# Altium footprint library PcbLib1.PcbLib: 36 footprints (part 1 of 3)
Each footprint in its own frame and in the unit in brackets; x right, y up, seen from the top. Pads: shape width x height; smd on the part's side, far side on the other; paste and mask are expansions set on the pad; w line width, h text height; cw(c..) or ccw(c..) is an arc to the next point about the centre after c.
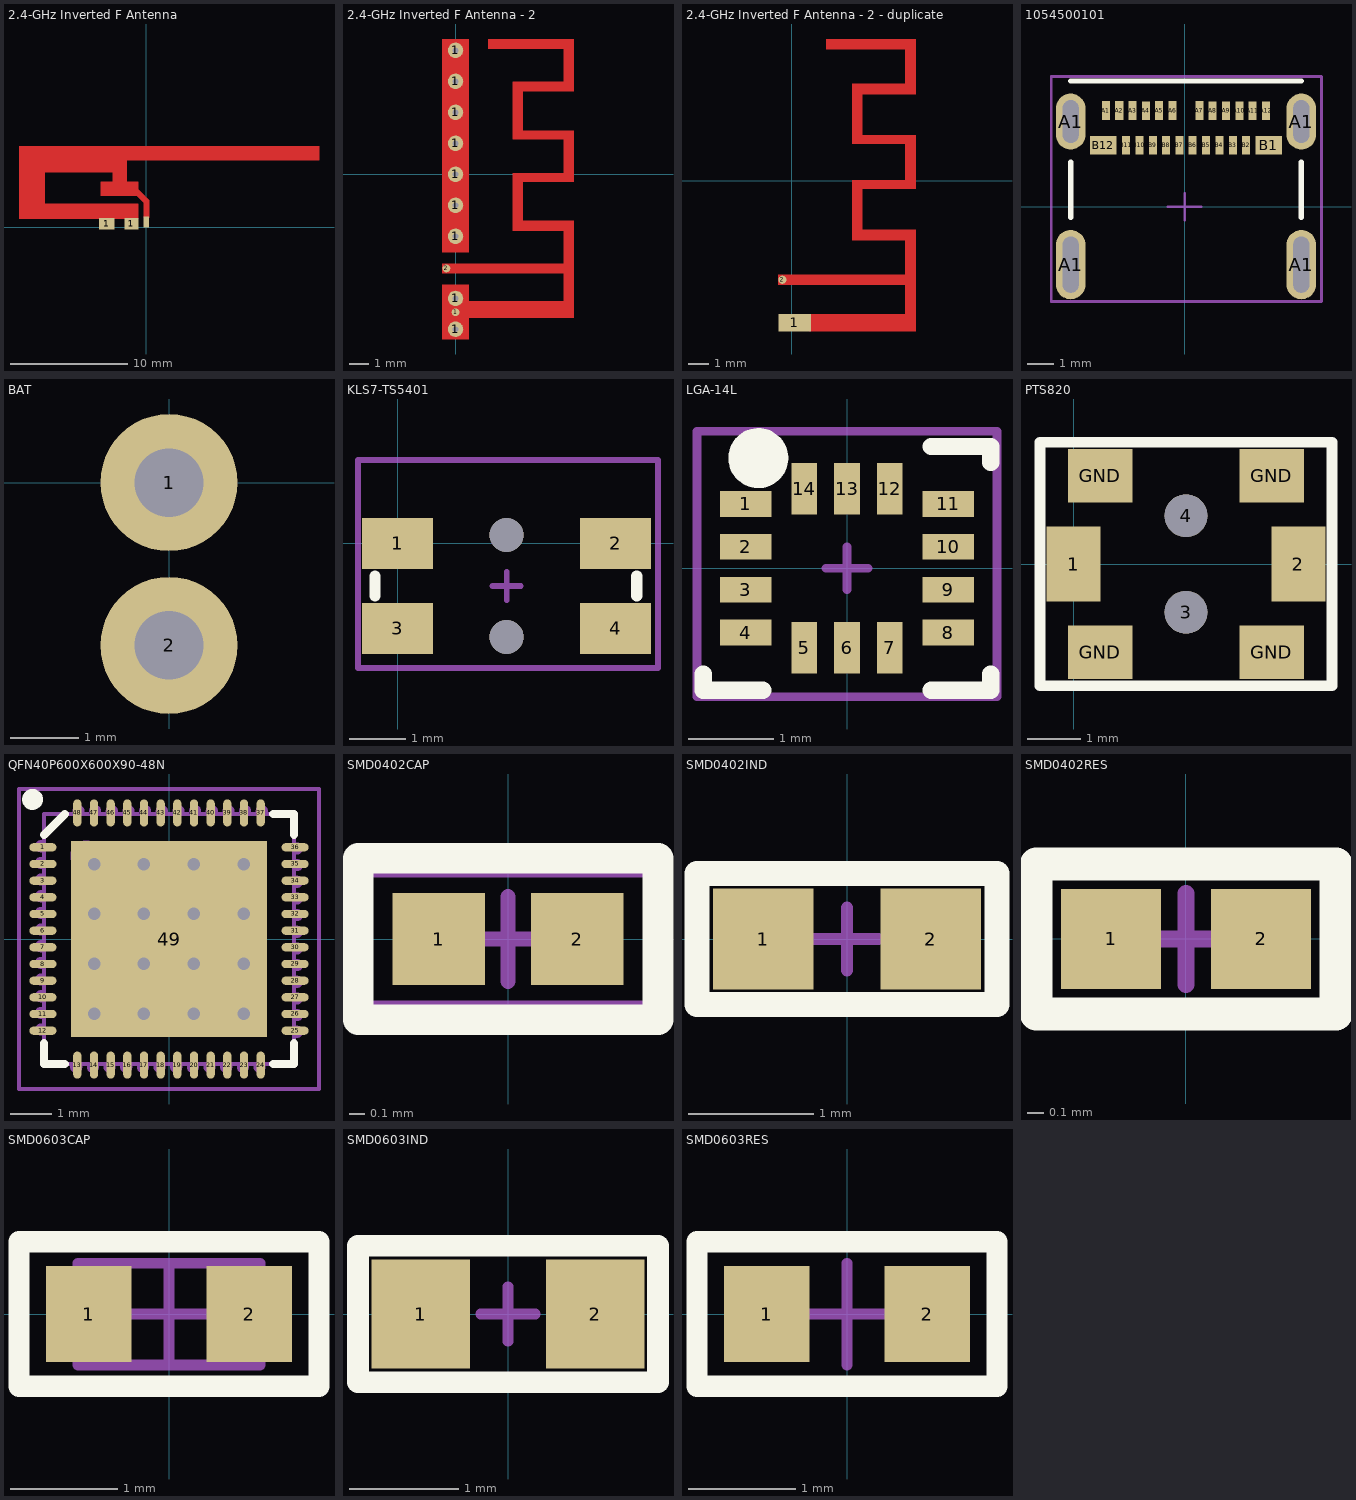
[diagram p0: the footprints below, top view; thin cyan lines are the x and y axes]

## 2.4-GHz Inverted F Antenna [mm]
pads (3):
  rect 1.35x1 smd paste-1: 1(-3.375,0.3)
  rect 1.2x1 smd paste-1: 1(-1.28,0.3)
  rect 0.46x0.92 smd paste-1: 2(0,0.46)
Top Layer:
  region: -0.23,0.8 0.23,0.8 0.23,2.295 -0.7,3.225 -1.025,2.9 -0.23,2.105
  region: 14.72,6.91 14.72,5.7 -1.68,5.7 -1.68,3.9 -0.68,3.9 -0.68,2.69 -3.88,2.69 -3.88,3.9 -2.88,3.9 -2.88,4.7 -8.68,4.7 -8.68,2.03 -0.68,2.03 -0.68,0.74 -1.88,0.74 -2.7,0.74 -4.05,0.74 -10.86,0.74 -10.86,6.91

## 2.4-GHz Inverted F Antenna - 2 [mm]
pads (11):
  round 0.8 hole 0.3 unplated: 1(0,-8) 1(0,-6.41) 1(0,-3.2) 1(0,-1.6) 1(0,0) 1(0,1.6) 1(0,3.2) 1(0,4.8) 1(0,6.4)
  round 0.4 smd paste-1: 1(0,-7.125) 2(-0.47,-4.86)
Top Layer:
  region: -0.677,6.989 -0.677,-4.018 0.678,-4.018 0.678,6.989
  region: 3.472,-2.409 3.472,-0.377 6.097,-0.377 6.097,2.248 3.472,2.248 3.472,4.28 6.097,4.28 6.097,6.989 1.694,6.989 1.694,6.481 5.589,6.481 5.589,4.788 2.964,4.788 2.964,1.824 5.589,1.824 5.589,0.046 2.964,0.046 2.964,-2.917 5.589,-2.917 5.589,-4.61 -0.677,-4.61 -0.677,-5.118 5.589,-5.118 5.589,-6.558 0.678,-6.558 0.678,-5.711 -0.677,-5.711 -0.677,-8.505 0.678,-8.505 0.678,-7.404 6.097,-7.404 6.097,-2.409
Mechanical 15:
  lines w0.003: 3.192,-0.656 3.243,-0.605

## 2.4-GHz Inverted F Antenna - 2 - duplicate [mm]
pads (2):
  rect 1.6x0.847 smd paste+0 mask+0.102: 1(0.137,-6.981)
  round 0.4 smd paste-1: 2(-0.47,-4.864)
Top Layer:
  region: 3.472,-2.409 3.472,-0.377 6.097,-0.377 6.097,2.248 3.472,2.248 3.472,4.28 6.097,4.28 6.097,6.989 1.694,6.989 1.694,6.481 5.589,6.481 5.589,4.788 2.964,4.788 2.964,1.824 5.589,1.824 5.589,0.046 2.964,0.046 2.964,-2.917 5.589,-2.917 5.589,-4.61 -0.677,-4.61 -0.677,-5.118 5.589,-5.118 5.589,-6.558 0.887,-6.558 0.887,-7.404 6.097,-7.404 6.097,-2.409
Mechanical 15:
  lines w0.003: 3.192,-0.656 3.243,-0.605

## 1054500101 [mm]
pads (28):
  oval 1.1x2.599 hole 0.6 slot 2.1 at 90 deg copper offset 0.001,0: A1(-4.271,-2.171)
  oval 1.1x2.1 hole 0.6 slot 1.6 at 90 deg copper offset 0.001,0: A1(-4.271,3.189)
  rect 0.3x0.7 smd mask+0.05: A1(-2.953,3.603) A2(-2.452,3.601) A3(-1.953,3.601) A4(-1.45,3.598) A5(-0.956,3.601) A6(-0.45,3.6) A7(0.55,3.601) A8(1.05,3.6) A9(1.549,3.599) A10(2.052,3.596) A11(2.545,3.599) A12(3.049,3.599) B2(2.297,2.3) B3(1.801,2.296) B4(1.299,2.299) B5(0.8,2.3) B6(0.3,2.302) B7(-0.197,2.301) B8(-0.699,2.301) B9(-1.194,2.297) B10(-1.697,2.301) B11(-2.196,2.302)
  oval 1.1x2.599 hole 0.6 slot 2.1 at 90 deg copper offset -0.001,0: A1(4.369,-2.171)
  oval 1.1x2.099 hole 0.6 slot 1.6 at 90 deg copper offset -0.001,0: A1(4.369,3.189)
  rect 1x0.7 smd mask+0.05: B1(3.149,2.299) B12(-3.051,2.299)
Top Overlay:
  lines w0.2: -4.271,-0.401 -4.271,1.669 ; -4.271,4.709 4.369,4.709 ; 4.369,-0.401 4.369,1.669
Mechanical 15:
  lines w0.1: -0.625,0 0.625,0 ; 0,-0.5 0,0.5 ; -5,-3.55 5.125,-3.55 5.125,4.875 -5,4.875 -5,-3.55
3D body "1054500101.stp": height 3.18, standoff -0.78, extent -4.375,-4.125 4.565,3.775

## BAT [mm]
pads (2):
  round 2 hole 1: 1(0,0) 2(0,-2.375)

## KLS7-TS5401 [mm] "TACT BUTTON"
pads (6):
  rect 1.25x0.9 smd: 1(0,0) 2(3.85,0) 3(0,-1.5) 4(3.85,-1.5)
  round 0.6 hole 0.6 unplated: ""(1.925,-1.65) ""(1.925,0.15)
Top Overlay:
  lines w0.2: -0.4,-0.925 -0.4,-0.575 ; 4.225,-0.925 4.225,-0.575
Mechanical 15:
  lines w0.1: 1.675,-0.75 2.175,-0.75 ; 1.925,-1 1.925,-0.5 ; -0.7,-2.2 -0.7,1.475 4.6,1.475 4.6,-2.2 -0.7,-2.2
3D body "User Library-KLS7-TS5401.step": height 1.35, standoff -0.5, extent -0.325,-2.25 4.175,1.4

## LGA-14L [mm]
pads (14):
  rect 0.6x0.3 smd mask+0.05: 1(-1.181,0.75) 2(-1.181,0.25) 3(-1.181,-0.25) 4(-1.181,-0.75) 8(1.181,-0.75) 9(1.181,-0.25) 10(1.181,0.25) 11(1.181,0.75)
  rect 0.3x0.6 smd mask+0.05: 5(-0.5,-0.927) 6(0,-0.927) 7(0.5,-0.927) 12(0.5,0.927) 13(0,0.927) 14(-0.5,0.927)
Top Overlay:
  circle w0.35: c-1.035,1.285 r0.175
  lines w0.2: -1.676,-1.233 -1.676,-1.422 -0.983,-1.422 ; 0.983,-1.422 1.676,-1.422 1.676,-1.233 ; 0.983,1.422 1.676,1.422 1.676,1.233
Mechanical 15:
  lines w0.1: -0.25,0 0.25,0 ; 0,-0.25 0,0.25 ; -1.75,-1.5 -1.75,1.6 1.75,1.6 1.75,-1.5 -1.75,-1.5
3D body "LGA-14L-M.step": height 0.87, standoff 0, extent -1.549,-1.295 1.549,1.295

## PCBComponent_1 [mm]

## PTS820 [mm] "Button"
pads (8):
  rect 1x1.4 smd: 1(0,0) 2(4.2,0)
  round 0.8 hole 0.8: 3(2.1,-0.9) 4(2.1,0.9)
  rect 1.2x1 smd: GND(0.5,-1.65) GND(0.5,1.65) GND(3.7,-1.65) GND(3.7,1.65)
Top Overlay:
  lines w0.2: -0.625,-2.275 -0.625,0 -0.625,2.275 4.825,2.275 4.825,-2.275 -0.625,-2.275
Mechanical 15:
  lines w0.1: -0.625,-2.275 -0.625,0 -0.625,2.275 4.825,2.275 4.825,-2.275 -0.625,-2.275
3D body "User Library-pts820_15_pb.step": height 1.7, standoff -0.5, extent -0.076,-1.425 4.276,1.475

## QFN40P600X600X90-48N [mm]
pads (49):
  oval 0.65x0.2 smd mask+0.05: 1(-3.025,2.2) 2(-3.025,1.8) 3(-3.025,1.4) 4(-3.025,1) 5(-3.025,0.6) 6(-3.025,0.2) 7(-3.025,-0.2) 8(-3.025,-0.6) 9(-3.025,-1) 10(-3.025,-1.4) 11(-3.025,-1.8) 12(-3.025,-2.2) 25(3.025,-2.2) 26(3.025,-1.8) 27(3.025,-1.4) 28(3.025,-1) 29(3.025,-0.6) 30(3.025,-0.2) 31(3.025,0.2) 32(3.025,0.6) 33(3.025,1) 34(3.025,1.4) 35(3.025,1.8) 36(3.025,2.2)
  oval 0.2x0.65 smd mask+0.05: 13(-2.2,-3.025) 14(-1.8,-3.025) 15(-1.4,-3.025) 16(-1,-3.025) 17(-0.6,-3.025) 18(-0.2,-3.025) 19(0.2,-3.025) 20(0.6,-3.025) 21(1,-3.025) 22(1.4,-3.025) 23(1.8,-3.025) 24(2.2,-3.025) 37(2.2,3.025) 38(1.8,3.025) 39(1.4,3.025) 40(1,3.025) 41(0.6,3.025) 42(0.2,3.025) 43(-0.2,3.025) 44(-0.6,3.025) 45(-1,3.025) 46(-1.4,3.025) 47(-1.8,3.025) 48(-2.2,3.025)
  rect 4.7x4.7 smd: 49(0,0)
via 1.8,-1.8 diameter 0.8 hole 0.3
via 0.6,-1.8 diameter 0.8 hole 0.3
via -0.6,-1.8 diameter 0.8 hole 0.3
via -1.8,-1.8 diameter 0.8 hole 0.3
via 1.8,-0.6 diameter 0.8 hole 0.3
via 0.6,-0.6 diameter 0.8 hole 0.3
via -0.6,-0.6 diameter 0.8 hole 0.3
via -1.8,-0.6 diameter 0.8 hole 0.3
via 1.8,0.6 diameter 0.8 hole 0.3
via 0.6,0.6 diameter 0.8 hole 0.3
via -0.6,0.6 diameter 0.8 hole 0.3
via -1.8,0.6 diameter 0.8 hole 0.3
via 1.8,1.8 diameter 0.8 hole 0.3
via 0.6,1.8 diameter 0.8 hole 0.3
via -0.6,1.8 diameter 0.8 hole 0.3
via -1.8,1.8 diameter 0.8 hole 0.3
Top Overlay:
  circle w0.25: c-3.275,3.35 r0.125
  lines w0.2: -3,-2.5 -3,-3 -2.5,-3 ; -3,2.5 -2.5,3 ; 2.5,-3 3,-3 3,-2.5 ; 2.5,3 3,3 3,2.5
Mechanical 7:
  circle w0.1: c-2,2 r0.32
  lines w0.1: -3,-2.269 -3.071,-2.269 cw(c-3.071,-2.174) -3.071,-2.079 -3,-2.079 ; -3,-1.869 -3.071,-1.869 cw(c-3.071,-1.774) -3.071,-1.679 -3,-1.679 ; -3,-1.469 -3.071,-1.469 cw(c-3.071,-1.374) -3.071,-1.279 -3,-1.279 ; -3,-1.069 -3.071,-1.069 cw(c-3.071,-0.974) -3.071,-0.879 -3,-0.879 ; -3,-0.669 -3.071,-0.669 cw(c-3.071,-0.574) -3.071,-0.479 -3,-0.479 ; -3,-0.269 -3.071,-0.269 cw(c-3.071,-0.174) -3.071,-0.079 -3,-0.079 ; -3,0.131 -3.071,0.131 cw(c-3.071,0.226) -3.071,0.321 -3,0.321 ; -3,0.531 -3.071,0.531 cw(c-3.071,0.626) -3.071,0.721 -3,0.721 ; -3,0.931 -3.071,0.931 cw(c-3.071,1.026) -3.071,1.121 -3,1.121 ; -3,1.331 -3.071,1.331 cw(c-3.071,1.426) -3.071,1.521 -3,1.521 ; -3,1.731 -3.071,1.731 cw(c-3.071,1.826) -3.071,1.921 -3,1.921 ; -3,2.131 -3.071,2.131 cw(c-3.071,2.226) -3.071,2.321 -3,2.321 ; -2.321,-3 -2.321,-3.071 ccw(c-2.226,-3.071) -2.131,-3.071 -2.131,-3 ; -2.269,3 -2.269,3.071 cw(c-2.174,3.071) -2.079,3.071 -2.079,3 ; -1.921,-3 -1.921,-3.071 ccw(c-1.826,-3.071) -1.731,-3.071 -1.731,-3 ; -1.869,3 -1.869,3.071 cw(c-1.774,3.071) -1.679,3.071 -1.679,3 ; -1.521,-3 -1.521,-3.071 ccw(c-1.426,-3.071) -1.331,-3.071 -1.331,-3 ; -1.469,3 -1.469,3.071 cw(c-1.374,3.071) -1.279,3.071 -1.279,3 ; -1.121,-3 -1.121,-3.071 ccw(c-1.026,-3.071) -0.931,-3.071 -0.931,-3 ; -1.069,3 -1.069,3.071 cw(c-0.974,3.071) -0.879,3.071 -0.879,3 ; -0.721,-3 -0.721,-3.071 ccw(c-0.626,-3.071) -0.531,-3.071 -0.531,-3 ; -0.669,3 -0.669,3.071 cw(c-0.574,3.071) -0.479,3.071 -0.479,3 ; -0.321,-3 -0.321,-3.071 ccw(c-0.226,-3.071) -0.131,-3.071 -0.131,-3 ; -0.269,3 -0.269,3.071 cw(c-0.174,3.071) -0.079,3.071 -0.079,3 ; 0.079,-3 0.079,-3.071 ccw(c0.174,-3.071) 0.269,-3.071 0.269,-3 ; 0.131,3 0.131,3.071 cw(c0.226,3.071) 0.321,3.071 0.321,3 ; 0.479,-3 0.479,-3.071 ccw(c0.574,-3.071) 0.669,-3.071 0.669,-3 ; 0.531,3 0.531,3.071 cw(c0.626,3.071) 0.721,3.071 0.721,3 ; 0.879,-3 0.879,-3.071 ccw(c0.974,-3.071) 1.069,-3.071 1.069,-3 ; 0.931,3 0.931,3.071 cw(c1.026,3.071) 1.121,3.071 1.121,3 ; 1.279,-3 1.279,-3.071 ccw(c1.374,-3.071) 1.469,-3.071 1.469,-3 ; 1.331,3 1.331,3.071 cw(c1.426,3.071) 1.521,3.071 1.521,3 ; 1.679,-3 1.679,-3.071 ccw(c1.774,-3.071) 1.869,-3.071 1.869,-3 ; 1.731,3 1.731,3.071 cw(c1.826,3.071) 1.921,3.071 1.921,3 ; 2.079,-3 2.079,-3.071 ccw(c2.174,-3.071) 2.269,-3.071 2.269,-3 ; 2.131,3 2.131,3.071 cw(c2.226,3.071) 2.321,3.071 2.321,3 ; 3,-2.321 3.071,-2.321 ccw(c3.071,-2.226) 3.071,-2.131 3,-2.131 ; 3,-1.921 3.071,-1.921 ccw(c3.071,-1.826) 3.071,-1.731 3,-1.731 ; 3,-1.521 3.071,-1.521 ccw(c3.071,-1.426) 3.071,-1.331 3,-1.331 ; 3,-1.121 3.071,-1.121 ccw(c3.071,-1.026) 3.071,-0.931 3,-0.931 ; 3,-0.721 3.071,-0.721 ccw(c3.071,-0.626) 3.071,-0.531 3,-0.531 ; 3,-0.321 3.071,-0.321 ccw(c3.071,-0.226) 3.071,-0.131 3,-0.131 ; 3,0.079 3.071,0.079 ccw(c3.071,0.174) 3.071,0.269 3,0.269 ; 3,0.479 3.071,0.479 ccw(c3.071,0.574) 3.071,0.669 3,0.669 ; 3,0.879 3.071,0.879 ccw(c3.071,0.974) 3.071,1.069 3,1.069 ; 3,1.279 3.071,1.279 ccw(c3.071,1.374) 3.071,1.469 3,1.469 ; 3,1.679 3.071,1.679 ccw(c3.071,1.774) 3.071,1.869 3,1.869 ; 3,2.079 3.071,2.079 ccw(c3.071,2.174) 3.071,2.269 3,2.269 ; -3,-3 3,-3 3,3 -3,3 -3,-3
  text ".Designator" at -1.1,-0.2 h0.38
Mechanical 15:
  lines w0.1: -0.5,0 0.5,0 ; 0,-0.5 0,0.5 ; -3.6,-3.6 3.6,-3.6 3.6,3.6 -3.6,3.6 -3.6,-3.6
3D body "User Library-QFN48.step": height 0.86, standoff -0.01, extent -3.02,-3.02 3.02,3.02

## SMD0402CAP [mm] "Chip Capacitor, 2-Leads, Body 1,00x0,50mm, IPC Medium Density"
height 0.55
pads (2):
  rect 0.6x0.6 smd: 1(-0.45,0) 2(0.45,0)
Top Overlay:
  lines w0.2: -0.975,-0.525 -0.4,-0.525 0.975,-0.525 0.975,0.525 -0.975,0.525 -0.975,-0.5 -0.975,-0.525
Mechanical 15:
  lines w0.1: -0.275,0 0.275,0 ; 0,-0.275 0,0.275 ; -0.95,-0.45 0.95,-0.45 0.95,0.45 -0.95,0.45 -0.95,-0.45
3D body "CAP_CC0402_1XP5-M.step": height 0.56, standoff 0, extent -0.521,-0.279 0.521,0.279

## SMD0402IND [mm]
pads (2):
  rect 0.804x0.811 smd: 1(-0.669,0) 2(0.669,0)
Top Overlay:
  lines w0.2: -1.2,-0.525 1.2,-0.525 1.2,0.525 -1.2,0.525 -1.2,-0.525
Mechanical 15:
  lines w0.1: -0.275,0 0.25,0 ; 0,-0.25 0,0.25 ; -1.2,-0.525 -1.2,0.525 1.2,0.525 1.2,-0.525 -1.2,-0.525
3D body "IND0402_22N_TAI-M.step": height 0.56, standoff 0, extent -0.521,-0.356 0.521,0.356

## SMD0402RES [mm] "Chip Resistor, 2-Leads, Body 1,00x0,50mm, IPC Medium Density"
height 0.4
pads (2):
  rect 0.6x0.6 smd: 1(-0.45,0) 2(0.45,0)
Top Overlay:
  lines w0.2: -0.9,-0.45 0.9,-0.45 0.9,0.45 -0.9,0.45 -0.9,-0.425 -0.9,-0.45
Mechanical 15:
  lines w0.1: -0.275,0 0.275,0 ; 0,-0.275 0,0.275 ; -0.9,-0.45 0.9,-0.45 0.9,0.45 -0.9,0.45 -0.9,-0.45
3D body "RES_CRCW_0402-M.step": height 0.41, standoff 0, extent -0.521,-0.279 0.521,0.279

## SMD0603CAP [mm]
pads (2):
  rect 0.8x0.9 smd: 1(-0.75,0) 2(0.75,0)
Top Overlay:
  lines w0.2: -1.4,-0.675 -1.4,0.675 1.4,0.675 1.4,-0.675 -1.4,-0.675
Mechanical 13:
  lines w0.1: -0.85,-0.475 -0.85,0.475 0.85,0.475 0.85,-0.475 -0.85,-0.475
Mechanical 15:
  lines w0.1: -0.475,0 0.475,0 ; 0,-0.475 0,0.475 ; -1.4,-0.675 1.4,-0.675 1.4,0.675 -1.4,0.675 -1.4,-0.675
3D body "CAPC-0603-T0.9-BN.stp": height 0.9, standoff 0, extent -0.85,-0.45 0.85,0.45

## SMD0603IND [mm]
pads (2):
  rect 0.9x1 smd: 1(-0.8,0) 2(0.8,0)
Top Overlay:
  lines w0.2: -1.375,-0.625 -1.375,0.625 1.375,0.625 1.375,-0.625 -1.375,-0.625
Mechanical 15:
  lines w0.1: -0.25,0 0.25,0 ; 0,-0.25 0,0.25 ; -1.375,-0.625 1.375,-0.625 1.375,0.625 -1.375,0.625 -1.375,-0.625
3D body "IND_BLM18_0603.step": height 0.94, standoff 0, extent -0.876,-0.47 0.876,0.47

## SMD0603RES [mm] "0603 Resistor"
pads (2):
  rect 0.8x0.9 smd: 1(-0.75,0) 2(0.75,0)
Top Overlay:
  lines w0.2: -1.4,-0.675 1.4,-0.675 1.4,0.675 -1.4,0.675 -1.4,-0.675
Mechanical 15:
  lines w0.1: -0.475,0 0.475,0 ; 0,-0.475 0,0.475 ; -1.4,-0.675 1.4,-0.675 1.4,0.675 -1.4,0.675 -1.4,-0.675
3D body "RESC-0603.stp": height 0.55, standoff 0, extent -0.85,-0.45 0.85,0.45